# Altium schematic symbol library SCH - DRIVER - LED - TI LM3464A_PWP_28.SchLib: 1 symbol
Pins are listed as number, name and electrical type; pins without a type are passive.

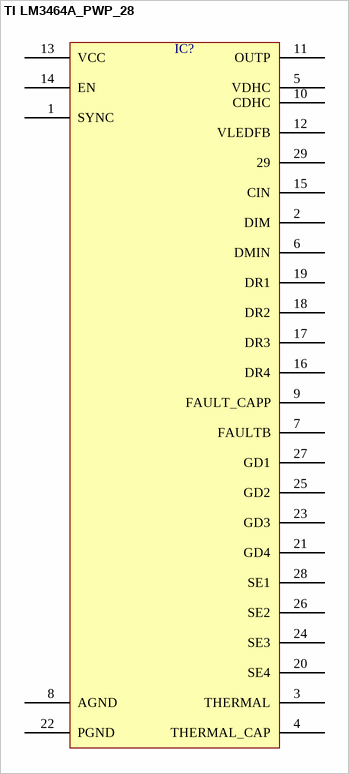
[diagram p0: symbol TI LM3464A_PWP_28]

## TI LM3464A_PWP_28
designator IC?  (value not drawn)
pins: 1 SYNC, 2 DIM, 3 THERMAL, 4 THERMAL_CAP, 5 VDHC, 6 DMIN, 7 FAULTB, 8 AGND, 9 FAULT_CAPP, 10 CDHC, 11 OUTP, 12 VLEDFB, 13 VCC, 14 EN, 15 CIN, 16 DR4, 17 DR3, 18 DR2, 19 DR1, 20 SE4, 21 GD4, 22 PGND, 23 GD3, 24 SE3, 25 GD2, 26 SE2, 27 GD1, 28 SE1, 29